# EAGLE library part 8_PIN_CON (library Dmitry)
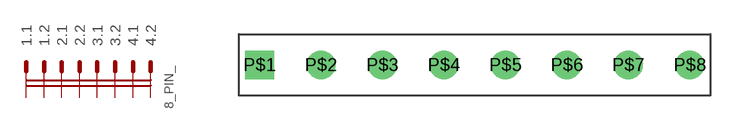
[diagram p2: symbol with the pads of 8_PIN_CON; footprint 8_PIN_CON]

Designator prefix 8_PIN_

## 8_PIN_CON  [8_PIN_CON]
P$1  1.1
P$2  1.2
P$3  2.1
P$4  2.2
P$5  3.1
P$6  3.2
P$7  4.1
P$8  4.2

## Footprint 8_PIN_CON (pad centres in mm)
drill 1 pad 1.778 square: P$1 -12.7,0.635
drill 1 pad 1.778: P$2 -8.89,0.635; P$3 -5.08,0.635; P$4 -1.27,0.635; P$5 2.54,0.635; P$6 6.35,0.635; P$7 10.16,0.635; P$8 13.97,0.635